# Altium integrated library ERJ-PB6B2201V.IntLib: 1 symbol
Pins are listed as number, name and electrical type; pins without a type are passive.

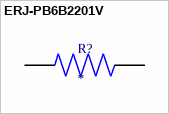
[diagram p0: symbol ERJ-PB6B2201V]

## ERJ-PB6B2201V
designator R?
MP: ERJ-PB6B2201V; Package: None; Price: None; Value: *; Availability: Unavailable
footprint RESC2012X70N
pins: 1, 2